# Altium schematic symbol library CapElectTht.SchLib: 34 symbols
Pins are listed as number, name and electrical type; pins without a type are passive.

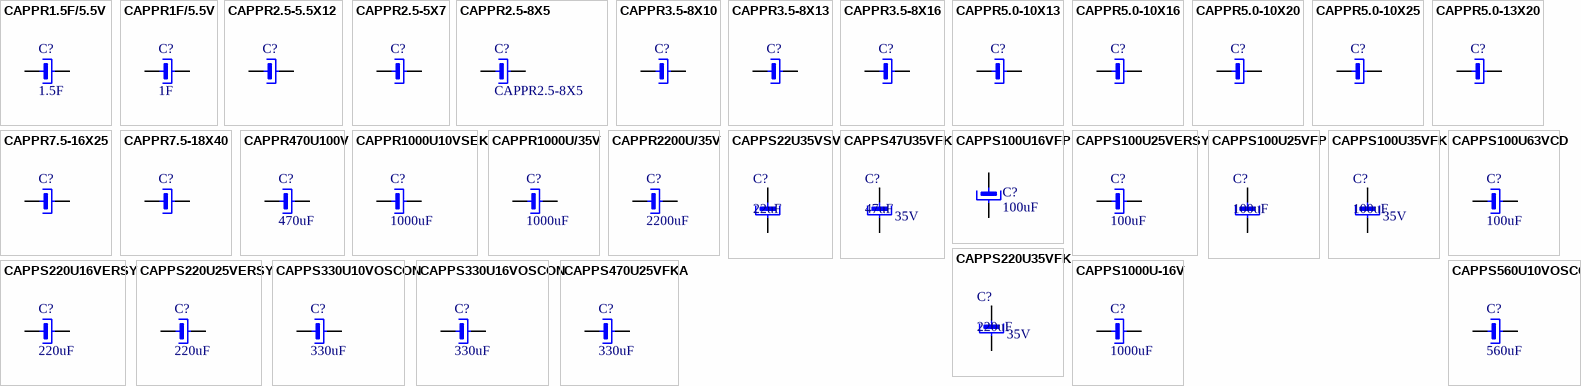
[diagram p0: symbols CAPPR1.5F/5.5V to CAPPS1000U-16V]

## CAPPR1.5F/5.5V
designator C?, comment 1.5F
Gold Capacitor Electric Double Layer SG 1.5F 5.5V; Manufacturer: Panasonic, Farnell; Manufacturer No: EECS5R5H155, 4434626; Comment2: 1.5F 5.5V <30R; Sort: 260; Tech: THDW; Package: R9.5mm; Price: 0
signal-integrity model Model Name (Model Description)
footprint CAPPR20.0-20X6 (Capacitor polarized radial D20.0x6mm R20.0mm GoldCAP)
pins: 1, 2

## CAPPR1F/5.5V
designator C?, comment 1F
Capacitor electrolitic radial D21.5x8mm R7.5 goldcap; Manufacturer: Buerklin, Farnell, Panasonic; Manufacturer No: 08D130, 9692720, EECF5R5U105; Comment2: 5.5V; Sort: 260; Tech: THDW; Package: D21x8mm R5mm; Price: 0
signal-integrity model Model Name (Model Description)
footprint CAPPR5.0-21.5X8 (Capacitor polarized radial D21.5x8mm R5.0mm GoldCAP)
pins: 1, 2

## CAPPR2.5-5.5X12
designator C?
Capacitor electolitic radial D5.5x12mm R2.5; Comment2: xxV typ; Sort: 260; Tech: THDW; Package: D5.5x12mm R2.5mm; Price: 0
signal-integrity model Model Name (Model Description)
footprint CAPPR2.5-5.5X12 (Capacitor polarized radial D5.5x12mm R2.5mm)
pins: 1, 2

## CAPPR2.5-5X7
designator C?
Capacitor electolitic radial D5x7mm R2.5; Comment2: xxV typ; Sort: 260; Tech: THDW; Package: D5x7mm R2.5mm; Price: 0
signal-integrity model Model Name (Model Description)
footprint CAPPR2.5-5X7 (Capacitor polarized radial D5x7mm R2.5mm)
pins: 1, 2

## CAPPR2.5-8X5
designator C?
Capacitor electolitic radial D8x5mm R2.5; Comment2: xxV typ; Sort: 260; Tech: THDW; Package: D8x5mm R2.5mm; Price: 0
signal-integrity model Model Name (Model Description)
footprint CAPPR3.5-8X5 (Capacitor polarized radial D8x5mm R2.5mm)
pins: 1, 2

## CAPPR3.5-8X10
designator C?
Capacitor electolitic radial D8x10mm R3.5; Comment2: xxV typ; Sort: 260; Tech: THDW; Package: D8x10mm R3.5mm; Price: 0
signal-integrity model Model Name (Model Description)
footprint CAPPR3.5-8X10 (Capacitor polarized radial D8x10mm R3.5mm)
pins: 1, 2

## CAPPR3.5-8X13
designator C?
Capacitor electolitic radial D8x13mm R3.5; Comment2: xxV typ; Sort: 260; Tech: THDW; Package: D8x13mm R3.5mm; Price: 0
signal-integrity model Model Name (Model Description)
footprint CAPPR3.5-8X13 (Capacitor polarized radial D8x13mm R3.5mm)
footprint CAPPR3.5-9X13H (Capacitor polarized radial D9x13mm R3.5mm horizontal)
pins: 1, 2

## CAPPR3.5-8X16
designator C?
Capacitor electolitic radial D8x16mm R3.5; Comment2: xxV typ; Sort: 260; Tech: THDW; Package: D8x16mm R3.5mm; Price: 0
signal-integrity model Model Name (Model Description)
footprint CAPPR3.5-8X16 (Capacitor polarized radial D8x16mm R3.5mm)
pins: 1, 2

## CAPPR5.0-10X13
designator C?
Capacitor electolitic radial D10x13mm R5.0; Comment2: xxV typ; Sort: 260; Tech: THDW; Package: D10x13mm R5.0mm; Price: 0
signal-integrity model Model Name (Model Description)
footprint CAPPR5.0-10X13 (Capacitor polarized radial D10x13mm R5.0mm)
pins: 1, 2

## CAPPR5.0-10X16
designator C?
Capacitor electolitic radial D10x16mm R5.0; Comment2: xxV typ; Sort: 260; Tech: THDW; Package: D10x16mm R5.0mm; Price: 0
signal-integrity model Model Name (Model Description)
footprint CAPPR5.0-10X16 (Capacitor polarized radial D10x16mm R5.0mm)
pins: 1, 2

## CAPPR5.0-10X20
designator C?
Capacitor electolitic radial D10x20mm R5.0; Comment2: xxV typ; Sort: 260; Tech: THDW; Package: D10x20mm R5.0mm; Price: 0
signal-integrity model Model Name (Model Description)
footprint CAPPR5.0-10X20 (Capacitor polarized radial D10x20mm R5.0mm)
pins: 1, 2

## CAPPR5.0-10X25
designator C?
Capacitor electolitic radial D10x25mm R5.0; Comment2: xxV typ; Sort: 260; Tech: THDW; Package: D10x25mm R5.0mm; Price: 0
signal-integrity model Model Name (Model Description)
footprint CAPPR5.0-10X25 (Capacitor polarized radial D10x25mm R5.0mm)
pins: 1, 2

## CAPPR5.0-13X20
designator C?
Capacitor electolitic radial D13x20mm R5.0; Comment2: xxV typ; Sort: 260; Tech: THDW; Package: D13x20mm R5.0mm; Price: 0
signal-integrity model Model Name (Model Description)
footprint CAPPR5.0-13X20 (Capacitor polarized radial D13x20mm R5.0mm)
pins: 1, 2

## CAPPR7.5-16X25
designator C?
Capacitor electolitic radial D16x25mm R7.5; Comment2: xxV typ; Sort: 260; Tech: THDW; Package: D16x25mm R7.5mm; Price: 0
signal-integrity model Model Name (Model Description)
footprint CAPPR7.5-16X25 (Capacitor polarized radial D16x25mm R7.5mm)
pins: 1, 2

## CAPPR7.5-18X40
designator C?
Capacitor electolitic radial D18x40mm R7.5; Comment2: xxV typ; Sort: 260; Tech: THDW; Package: D18x40mm R7.5mm; Price: 0
signal-integrity model Model Name (Model Description)
footprint CAPPR7.5-18X40 (Capacitor polarized radial D18x40mm R7.5mm)
pins: 1, 2

## CAPPR470U100V
designator C?, comment 470uF
Capacitor electolitic radial D16x25mm R7.5; Manufacturer: BC Components; Comment2: 100V; Sort: 260; Tech: THDW; Package: D16x36.6mm R7.5mm; Price: 0
signal-integrity model Model Name (Model Description)
footprint CAPPR7.5-16X36.6 (Capacitor polarized radial D16x36.6mm R7.5mm)
pins: 1, 2

## CAPPR1000U10VSEK
designator C?, comment 1000uF
Capacitor electolitic radial D10x12mm R5.0; Manufacturer: Yageo; Manufacturer No: SE-K101M1000A5S-1012; Comment2: 10V SEK 20% 105degC; Sort: 260; Tech: THDW; Package: Elko D10x12mm R5.0mm; Price: 0
signal-integrity model Model Name (Model Description)
footprint CAPPR5.0-10X12 (Capacitor polarized radial D10x12mm R5.0mm)
pins: 1, 2

## CAPPR1000U/35V
designator C?, comment 1000uF
Capacitor electolitic radial D16x20mm R7.5; Comment2: 35V; Sort: 260; Tech: THDW; Package: D16x20mm R7.5mm; Price: 0
signal-integrity model Model Name (Model Description)
footprint CAPPR7.5-16X20 (Capacitor polarized radial D16x20mm R7.5mm)
pins: 1, 2

## CAPPR2200U/35V
designator C?, comment 2200uF
Capacitor electolitic radial D16x25mm R7.5; Comment2: 35V; Sort: 260; Tech: THDW; Package: D16x25mm R7.5mm; Price: 0
signal-integrity model Model Name (Model Description)
footprint CAPPR7.5-16X25 (Capacitor polarized radial D16x25mm R7.5mm)
pins: 1, 2

## CAPPS22U35VSV
designator C?, comment 22uF
Capacitor electrolitic SMD 6.6X6.6X5.4mm gen.purp.; Manufacturer: Panasonic, Farnell; Manufacturer No: EEE1VA220SP,  9697020; Comment2: 35V SV; Sort: 230; Tech: SMDR; Package: 6.6X6.6X5.4mm; Price: 0
footprint CAPPS-D6.3X5.8 (Capacitor polarised SMD D6.3; 6.6x6.6x5.8mm)
pins: 1, 2

## CAPPS47U35VFK
designator C?, comment 47uF  Voltage: 35V
Capacitor electrolitic SMD D6.3 h5.8mm low ESR; Manufacturer: Panasonic, Farnell; Manufacturer No: EEEFK1V470P, 9695850; Comment2: 35V FK 20% 0.24Arip 0.36R; Sort: 230; Tech: SMDR; Package: Cap Al D6.3H5.8mm; Price: 0,35
footprint CAPPS-D6.3X5.8 (Capacitor polarised SMD D6.3; 6.6x6.6x5.8mm)
pins: 1, 2

## CAPPS100U16VFP
designator C?, comment 100uF
Capacitor electrolitic SMD D6.3 H5.8mm low ESR; Manufacturer: Panasonic, Farnell; Manufacturer No: EEEFP1C101AP, 1539476; Comment2: 16V FP 0.26R 0.3Arip; Sort: 230; Tech: SMDR; Package: Cap Al D6.3H5.8mm; Price: 0,65
footprint CAPPS-D6.3X5.8 (Capacitor polarised SMD D6.3; 6.6x6.6x5.8mm)
pins: 1, 2

## CAPPS100U25VERSY
designator C?, comment 100uF
Capacitor electrolitic SMD 6.3X6.3X7.7MM low ESR; Manufacturer: Panasonic, Farnell; Manufacturer No: EEEFPE101XAP,  1539488; Comment2: 25V ERSY; Sort: 230; Tech: SMDR; Package: 6.3X6.3X7.7mm; Price: 0
footprint CAPPS-D6.3X7.7 (Capacitor polarised SMD D6.3; 6.6x6.6x7.7mm)
pins: 1, 2

## CAPPS100U25VFP
designator C?, comment 100uF
Capacitor electrolitic SMD 6.3X6.3X7.7MM low ESR; Manufacturer: Panasonic, Farnell; Manufacturer No: EEEFPE101XAP,  1539488; Comment2: 25V FP; Sort: 230; Tech: SMDR; Package: 6.3X6.3X7.7mm; Price: 0
footprint CAPPS-D6.3X7.7 (Capacitor polarised SMD D6.3; 6.6x6.6x7.7mm)
pins: 1, 2

## CAPPS100U35VFK
designator C?, comment 100uF  Voltage: 35V
Capacitor electrolitic SMD 8.3X8.3X10.2mm low ESR; Manufacturer: Panasonic, Farnell; Manufacturer No: EEEFK1V101P, 9695869; Comment2: 35V FK 20% 0.6Arms 0.16R; Sort: 230; Tech: SMDR; Package: 8.3X8.3X10.2mm; Price: 0
footprint CAPPS-D8X10.2 (Capacitor polarised SMD D8; 8.3X8.3X10.2)
pins: 1, 2

## CAPPS100U63VCD
designator C?, comment 100uF
Capacitor electrolitic SMD 10x10x10mm low ESR; Manufacturer: Nichicon; Manufacturer No: UCD1J101MNL1GS; Comment2: 63V CD 0.35Resr 400mArms 105deg; Sort: 230; Tech: SMDR; Package: CAP pol SMT 10x10x10mm; Price: 3
signal-integrity model Model Name (Model Description)
footprint CAPPS-D10X10 (Capacitor polarised SMD D10; 10.3X10.3X10mm)
pins: 1, 2

## CAPPS220U16VERSY
designator C?, comment 220uF
Capacitor electrolitic SMD 8.9X8.9X12MM low ESR; Manufacturer: Frolyt; Comment2: 16V ERSY; Sort: 230; Tech: SMDR; Package: 8.9x8.9x12mm; Price: 0
signal-integrity model Model Name (Model Description)
footprint CAPPS-8.9X12 (Capacitor polarised SMD 8.9X8.9X12)
footprint CAPPS-D8.9X12
footprint CAPPS-D8.7X12
pins: 1, 2

## CAPPS220U25VERSY
designator C?, comment 220uF
Capacitor electrolitic SMD 8.9X8.9X12MM low ESR; Manufacturer: Frolyt; Comment2: 25V ERSY; Sort: 230; Tech: SMDR; Package: 8.9x8.9x12mm; Price: 0
signal-integrity model Model Name (Model Description)
footprint CAPPS-8.9X12 (Capacitor polarised SMD 8.9X8.9X12)
footprint CAPPS-D8.9X12
footprint CAPPS-D8.7X12
pins: 1, 2

## CAPPS220U35VFK
designator C?, comment 220uF  Voltage: 35V
Capacitor electrolitic SMD 8.3x8.3x10.2mm low ESR; Manufacturer: Panasonic, Farnell; Manufacturer No: EEEFK1V221P, 9695877; Comment2: 35V FK 20% 0.6Arms 0.16R; Sort: 230; Tech: SMDR; Package: 8.3X8.3X10.2mm; Price: 0.8
footprint CAPPS-D8X10.2 (Capacitor polarised SMD D8; 8.3X8.3X10.2)
pins: 1, 2

## CAPPS330U10VOSCON
designator C?, comment 330uF
Capacitor electrolitic SMD 10x10x8mm low ESR; Manufacturer: Sanyo; Manufacturer No: 10SVP330M; Comment2: 10V OSCON; Sort: 230; Tech: SMDR; Package: CAP pol SMT 10x10x8mm; Price: 3
signal-integrity model Model Name (Model Description)
footprint CAPPS-D10X8 (Capacitor polarised SMD D10; 10.3X10.3X8mm)
pins: 1, 2

## CAPPS330U16VOSCON
designator C?, comment 330uF
Capacitor electrolitic SMD 10x10x8mm low ESR; Manufacturer: Sanyo, Farnell; Manufacturer No: 16SVP330M, 9189084; Comment2: 16V OsCon 16mResr 4.7Arms; Sort: 230; Tech: SMDR; Package: CAP pol SMT 10x10x12mm; Price: 3
signal-integrity model Model Name (Model Description)
footprint CAPPS-D10X12.6 (Capacitor polarised SMD D10; 10.2x10.2x12.6mm)
pins: 1, 2

## CAPPS470U25VFKA
designator C?, comment 330uF
Capacitor electrolitic SMD 10x10x8mm low ESR; Manufacturer: Panasonic, Farnell; Manufacturer No: EEEFK1E471AP, 1244419; Comment2: 25V FKA; Sort: 230; Tech: SMDR; Package: CAP pol SMT 10x10x8mm; Price: 2
signal-integrity model Model Name (Model Description)
footprint CAPPS-D10X8 (Capacitor polarised SMD D10; 10.3X10.3X8mm)
pins: 1, 2

## CAPPS560U10VOSCON
designator C?, comment 560uF
Capacitor electrolitic SMD 10x10x8mm low ESR; Manufacturer: Sanyo, Farnell; Manufacturer No: 10SVP560M, 9188983; Comment2: 10V OsCon 13mResr 5.2Arms; Sort: 230; Tech: SMDR; Package: CAP pol SMT 10x10x12mm; Price: 3
signal-integrity model Model Name (Model Description)
footprint CAPPS-D10X12.6 (Capacitor polarised SMD D10; 10.2x10.2x12.6mm)
pins: 1, 2

## CAPPS1000U-16V
designator C?, comment 1000uF
Capacitor electrolitic SMD 10x10x8mm low ESR; Manufacturer: Panasonic; Manufacturer No: EEE-FT1C102AP; Comment2: 16V 80mR; Sort: 230; Tech: SMDR; Package: CAP pol SMT 10x10x12mm; Price: 1.58; Supplier: Mouser; Supplier No: 667-EEE-FT1C102AP
signal-integrity model Model Name (Model Description)
footprint CAPPS-D10X12.6 (Capacitor polarised SMD D10; 10.2x10.2x12.6mm)
pins: 1, 2